# Altium schematic symbol library CGA3E1X7R1C474K080AC.SchLib: 1 symbol
Pins are listed as number, name and electrical type; pins without a type are passive.

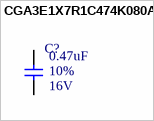
[diagram p0: symbol CGA3E1X7R1C474K080AC]

## CGA3E1X7R1C474K080AC
designator C?  Rated Voltage: 16V  Tolerance: 10%  Capacitence: 0.47uF  (hidden comment: CGA3E1X7R1C474K080AC)
CAP CER 0.47UF 16V X7R 0603; MFR: TDK Corporation; PN: CGA3E1X7R1C474K080AC; ComponentLink1Description: Datasheet; ComponentLink1URL: www.google.com; Temperature Coefficient: X7R; Package: 0603; Footprint: C0603; Supplier 1: Mouser; Supplier Part Number 1: 810-CGA3E1X7R1C474K
footprint C0603 (Generic C0603 Footprint)
pins: 1, 2